# Altium footprint library MAX17055.PcbLib: 1 footprints
Each footprint in its own frame and in the unit in brackets; x right, y up, seen from the top. Pads: shape width x height; smd on the part's side, far side on the other; paste and mask are expansions set on the pad; w line width, h text height; cw(c..) or ccw(c..) is an arc to the next point about the centre after c.
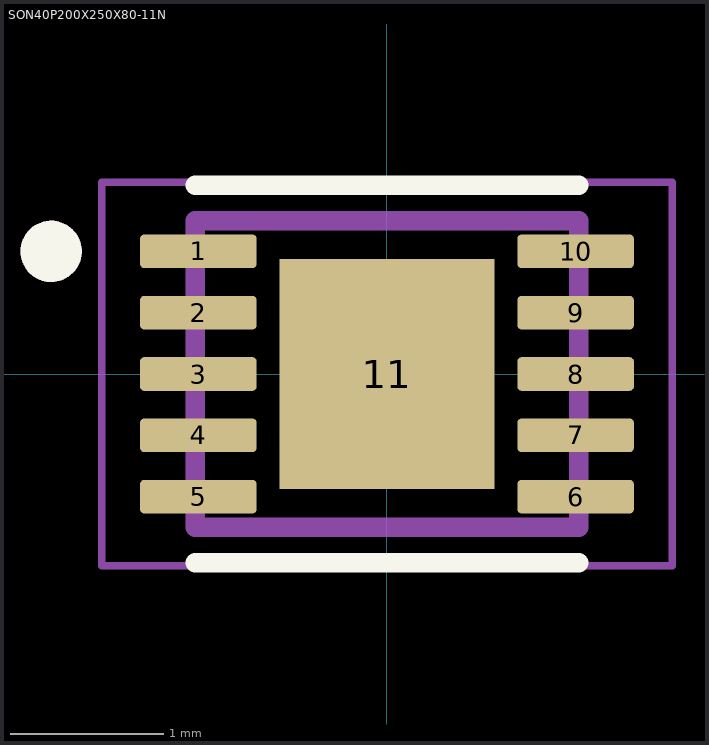
[diagram p0: the footprint, top view; thin cyan lines are the x and y axes]

## SON40P200X250X80-11N [mm]
pads (11):
  rrect25% 0.76x0.22 smd: 1(-1.23,0.8) 2(-1.23,0.4) 3(-1.23,0) 4(-1.23,-0.4) 5(-1.23,-0.8) 6(1.23,-0.8) 7(1.23,-0.4) 8(1.23,0) 9(1.23,0.4) 10(1.23,0.8)
  rect 1.4x1.5 smd paste-2: 11(0,0)
Top Overlay:
  circle w0.2: c-2.19,0.8 r0.1
  lines w0.127: -1.25,-1.23 1.25,-1.23 ; -1.25,1.23 1.25,1.23
Top Paste:
  region: 0.44,-0.47 -0.44,-0.47 -0.44,0.47 0.44,0.47
Mechanical 13:
  circle w0.2: c-2.19,0.8 r0.1
  lines w0.127: -1.25,-1 1.25,-1 1.25,1 -1.25,1 -1.25,-1
Mechanical 15:
  lines w0.05: -1.86,-1.25 1.86,-1.25 1.86,1.25 -1.86,1.25 -1.86,-1.25